# Altium integrated library Altium_Other.IntLib: 16 symbols
Pins are listed as number, name and electrical type; pins without a type are passive.

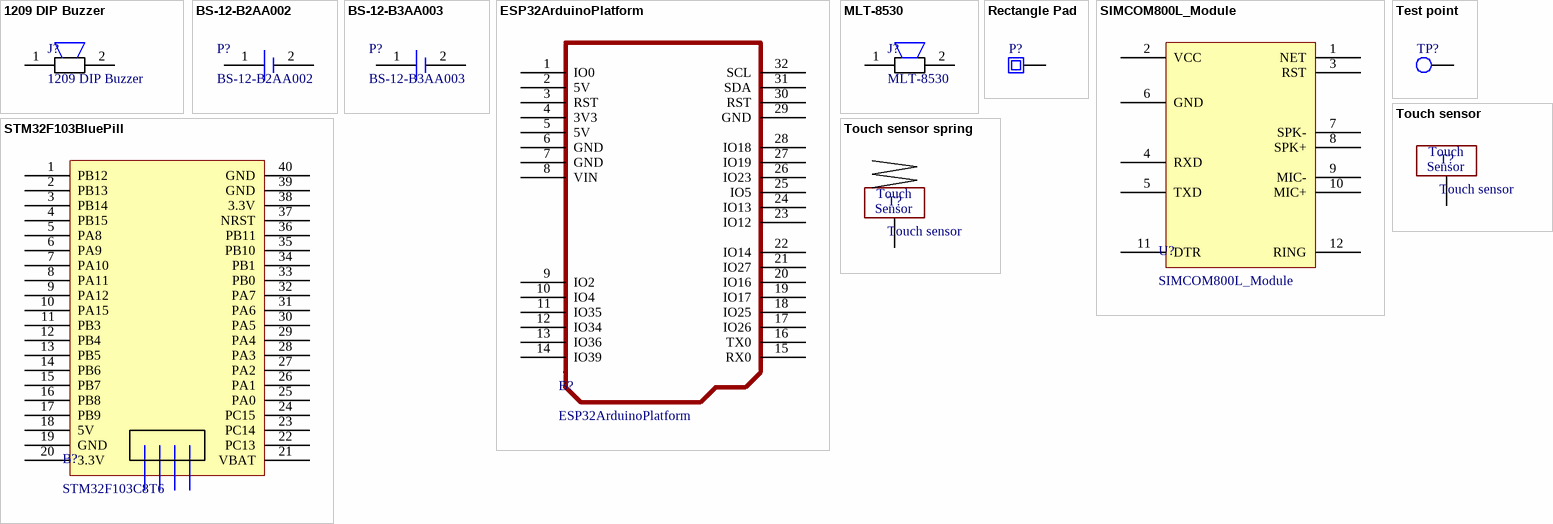
[diagram p0: symbols 1209 DIP Buzzer to Touch sensor spring]

## 1209 DIP Buzzer
designator J?
1209 DIP Buzzer 12x9mm 93dB; Manufacturer: OEM; ComponentLink1Description: Datasheet; ComponentLink1URL: N/A; LCSC Part #: N/A; Manufacturer Part Number: N/A; Mount: THT; Operating Temperature Max: + 70 C; Operating Temperature Min: - 20 C; Package / Case: 1209; Packaging: Tape and Reel; Supplier 1: Mouser; Supplier 1 Part Number: N/A; Supplier 1 URL: N/A; Supplier 2: Digi-Key; Supplier 2 Part Number: N/A; Supplier 2 URL: N/A; Supplier 3: thegioiic; Supplier 3 Part Number: 1209 DIP Buzzer; Supplier 3 URL: https://www.thegioiic.com/1209-dip-buzzer-12x9mm-93db; Value: 1209 DIP Buzzer
footprint 1209_DIP_BUZZER
pins: 1, 2

## BS-12-B2AA002
designator P?
Battery base -25℃~+85℃ SMD Battery Connectors ROHS; Manufacturer: MYOUNG; Value: CR1220; ComponentLink1Description: Datasheet; ComponentLink1URL: https://datasheet.lcsc.com/lcsc/2012311834_MYOUNG-BS-12-B2AA002_C964721.pdf; LCSC Part #: C964721; Manufacturer Part Number: BS-12-B2AA002; Mount: SMD/SMT; Operating Temperature Max: + 85 C; Operating Temperature Min: - 40 C; Package / Case: CR1220;CR1220D;ML1220; Packaging: Tape and Reel; Supplier 1: Mouser; Supplier 1 Part Number: N/A; Supplier 1 URL: N/A; Supplier 2: Digi-Key; Supplier 2 Part Number: N/A; Supplier 2 URL: N/A; Supplier 3: thegioiic; Supplier 3 Part Number: N/A; Supplier 3 URL: N/A
footprint BS-12-B2AA002/3
pins: 1, 2

## BS-12-B3AA003
designator P?
Battery base -25℃~+85℃ SMD Battery Connectors ROHS; Manufacturer: MYOUNG; ComponentLink1Description: Datasheet; ComponentLink1URL: https://www.lcsc.com/datasheet/lcsc_datasheet_2012181808_MYOUNG-BS-12-B3AA003_C964723.pdf; LCSC Part #: C964723; Manufacturer Part Number: BS-12-B3AA003; Mount: SMD/SMT; Operating Temperature Max: + 85 C; Operating Temperature Min: - 40 C; Package / Case: CR1220;CR1220D;ML1220; Packaging: Tape and Reel; Supplier 1: Mouser; Supplier 1 Part Number: N/A; Supplier 1 URL: N/A; Supplier 2: Digi-Key; Supplier 2 Part Number: N/A; Supplier 2 URL: N/A; Supplier 3: thegioiic; Supplier 3 Part Number: N/A; Supplier 3 URL: N/A; Value: BS-12-B3AA003
footprint BS-12-B2AA002/3
pins: 1, 2

## ESP32ArduinoPlatform
designator B?  (no BOM)
footprint ESP32ARDUINOPLATFORM (ESP32ArduinoPlatform)
pins: 1 IO0, 2 5V, 3 RST, 4 3V3, 5 5V, 6 GND, 7 GND, 8 VIN, 9 IO2, 10 IO4, 11 IO35, 12 IO34, 13 IO36, 14 IO39, 15 RX0, 16 TX0, 17 IO26, 18 IO25, 19 IO17, 20 IO16, 21 IO27, 22 IO14, 23 IO12, 24 IO13, 25 IO5, 26 IO23, 27 IO19, 28 IO18, 29 GND, 30 RST, 31 SDA, 32 SCL

## MLT-8530
designator J?
80dB Passive (external drive) Electromagnetic Type 2.7kHz SMD,8.5x8.5mm Buzzers ROHS; Manufacturer: Jiangsu Huaneng Elec; ComponentLink1Description: Datasheet; ComponentLink1URL: https://www.lcsc.com/datasheet/lcsc_datasheet_2410010301_Jiangsu-Huaneng-Elec-MLT-8530_C94599.pdf; LCSC Part #: C94599; Manufacturer Part Number: MLT-8530; Mount: SMT/SMD; Operating Temperature Max: + 70 C; Operating Temperature Min: - 20 C; Package / Case: SMD,8.5x8.5mm; Packaging: Tape and Reel; Supplier 1: Mouser; Supplier 1 Part Number: N/A; Supplier 1 URL: N/A; Supplier 2: Digi-Key; Supplier 2 Part Number: N/A; Supplier 2 URL: N/A; Supplier 3: thegioiic; Supplier 3 Part Number: N/A; Supplier 3 URL: N/A; Value: MLT-8530
footprint MLT-8530
pins: 1, 2

## Rectangle Pad
designator P?  (value not drawn)  (no BOM)
Manufacturer: OEM; ComponentLink1Description: Datasheet; ComponentLink1URL: N/A; LCSC Part #: N/A; Manufacturer Part Number: N/A; Mount: N/A; Operating Temperature Max: N/A; Operating Temperature Min: N/A; Package / Case: N/A; Packaging: N/A; Supplier 1: Mouser; Supplier 1 Part Number: N/A; Supplier 1 URL: N/A; Supplier 2: Digi-Key; Supplier 2 Part Number: N/A; Supplier 2 URL: N/A; Supplier 3: thegioiic; Supplier 3 Part Number: N/A; Supplier 3 URL: N/A; Value: N/A
footprint RECTANGLE PAD
pins: 1 27

## SIMCOM800L_Module
designator U?
Manufacturer: OEM; ComponentLink1Description: Datasheet; ComponentLink1URL: N/A; LCSC Part #: N/A; Manufacturer Part Number: N/A; Mount: N/A; Operating Temperature Max: N/A; Operating Temperature Min: N/A; Package / Case: N/A; Packaging: N/A; Supplier 1: Mouser; Supplier 1 Part Number: N/A; Supplier 1 URL: N/A; Supplier 2: Digi-Key; Supplier 2 Part Number: N/A; Supplier 2 URL: N/A; Supplier 3: thegioiic; Supplier 3 Part Number: N/A; Supplier 3 URL: N/A; Value: N/A
footprint SIMCOM800L
pins: 1 NET, 2 VCC, 3 RST, 4 RXD, 5 TXD, 6 GND, 7 SPK-, 8 SPK+, 9 MIC-, 10 MIC+, 11 DTR, 12 RING

## STM32F103BluePill
designator B?, comment STM32F103C8T6
footprint BLUEPILL
pins: 1 PB12, 2 PB13, 3 PB14, 4 PB15, 5 PA8, 6 PA9, 7 PA10, 8 PA11, 9 PA12, 10 PA15, 11 PB3, 12 PB4, 13 PB5, 14 PB6, 15 PB7, 16 PB8, 17 PB9, 18 5V, 19 GND, 20 3.3V, 21 VBAT, 22 PC13, 23 PC14, 24 PC15, 25 PA0, 26 PA1, 27 PA2, 28 PA3, 29 PA4, 30 PA5, 31 PA6, 32 PA7, 33 PB0, 34 PB1, 35 PB10, 36 PB11, 37 NRST, 38 3.3V, 39 GND, 40 GND

## Test point
designator TP?  (value not drawn)  (no BOM)
Manufacturer: OEM; ComponentLink1Description: Datasheet; ComponentLink1URL: N/A; LCSC Part #: N/A; Manufacturer Part Number: N/A; Mount: N/A; Operating Temperature Max: N/A; Operating Temperature Min: N/A; Package / Case: N/A; Packaging: N/A; Supplier 1: Mouser; Supplier 1 Part Number: N/A; Supplier 1 URL: N/A; Supplier 2: Digi-Key; Supplier 2 Part Number: N/A; Supplier 2 URL: N/A; Supplier 3: thegioiic; Supplier 3 Part Number: N/A; Supplier 3 URL: N/A; Value: N/A
footprint TP
pins: 1 27

## Touch sensor
designator T?  (no BOM)
Touch sensor PCB; Manufacturer: OEM; ComponentLink1Description: Datasheet; ComponentLink1URL: N/A; LCSC Part #: N/A; Manufacturer Part Number: N/A; Mount: N/A; Operating Temperature Max: N/A; Operating Temperature Min: N/A; Package / Case: N/A; Packaging: N/A; Supplier 1: Mouser; Supplier 1 Part Number: N/A; Supplier 1 URL: N/A; Supplier 2: Digi-Key; Supplier 2 Part Number: N/A; Supplier 2 URL: N/A; Supplier 3: thegioiic; Supplier 3 Part Number: N/A; Supplier 3 URL: N/A; Value: N/A
footprint TOUCHSENSOR_PCB
pins: 1 27
text: Touch; Sensor

## Touch sensor spring
designator T?, comment Touch sensor  (no BOM)
9x12mm LX-0912; Manufacturer: OEM; ComponentLink1Description: Datasheet; ComponentLink1URL: N/A; LCSC Part #: N/A; Manufacturer Part Number: N/A; Mount: N/A; Operating Temperature Max: N/A; Operating Temperature Min: N/A; Package / Case: N/A; Packaging: N/A; Supplier 1: Mouser; Supplier 1 Part Number: N/A; Supplier 1 URL: N/A; Supplier 2: Digi-Key; Supplier 2 Part Number: N/A; Supplier 2 URL: N/A; Supplier 3: thegioiic; Supplier 3 Part Number: N/A; Supplier 3 URL: N/A; Value: N/A
footprint TOUCHSENSOR_SPRING
footprint TOUCHSENSOR_SPRING_CENTER
pins: 1 27
text: Touch; Sensor


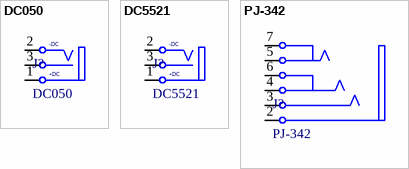
[diagram p1: symbols DC050 to PJ-342]

## DC050
designator J?
Surface Mount，Right Angle DC Power Receptacle 2mm 6.4mm 4A 16V SMD AC/DC Power Connectors ROHS; Manufacturer: OEM; Manufacturer Part Number: SHOU HAN; Rated Current: 2.5A; ComponentLink1Description: Datasheet link; ComponentLink1URL: https://datasheet.lcsc.com/lcsc/1912111437_SHOU-HAN-DC050-T_C431534.pdf?_gl=1*18nk6nd*_ga*MTI1Mzk4MDEzNi4xNzAxOTIwNDk2*_ga_98M84MKSZH*MTcxMTA5NjQ0Ny4xNjYuMS4xNzExMTAwNDQzLjI2LjAuMA..; Mount: SMD/SMT; Number of Pins: 4; Operating Temperature Max: N/A; Operating Temperature Min: N/A; Packaging: N/A; Supplier 1 URL: N/A; Supplier 2 URL: N/A; Supplier 3 URL: https://www.thegioiic.com/dc050-dau-noi-nguon-dc-cai-5521-dan-smd-kim-2-1mm; Value: DC050; LCSC Part #: C431534; Supplier 1: Mouser; Supplier 1 Part Number: N/A; Supplier 2: Digi-Key; Supplier 2 Part Number: N/A; Supplier 3: thegioiic; Supplier 3 Part Number: DC050; Voltage Rating DC: 16V
footprint DC050
pins: 1 T "Tip", 2 TN "Tip Normal (Break Contact)", 3 S (power) "Sleeve (Ground)"
text: -DC; +DC

## DC5521
designator J?
Manufacturer: OEM; Rated Current: 2.5A; Voltage Rating DC: 16V; ComponentLink1Description: Datasheet link; ComponentLink1URL: N/A; Manufacturer Part Number: N/A; Mount: THT; Number of Pins: 3; Operating Temperature Max: N/A; Operating Temperature Min: N/A; Packaging: N/A; Supplier 1 URL: N/A; Supplier 2 URL: N/A; Supplier 3 URL: https://www.thegioiic.com/dc050-dau-noi-nguon-dc-cai-5521-dan-smd-kim-2-1mm; Value: DC5521; LCSC Part #: N/A; Supplier 1: Mouser; Supplier 1 Part Number: N/A; Supplier 2: Digi-Key; Supplier 2 Part Number: N/A; Supplier 3: thegioiic; Supplier 3 Part Number: DC5521
footprint DC5521 (Jac DC input)
pins: 1 T "Tip", 2 TN "Tip Normal (Break Contact)", 3 S (power) "Sleeve (Ground)"
text: -DC; +DC

## PJ-342
designator J?
-30℃~+70℃ 3.5mm headphone jack 30V 500mA SMD Audio Connectors ROHS; Manufacturer: SHOU HAN; Rated Current: 2.5A; ComponentLink1Description: Datasheet link; ComponentLink1URL: https://datasheet.lcsc.com/lcsc/2006301234_SHOU-HAN-PJ-342_C668606.pdf?_gl=1*1tpi1co*_ga*MTI1Mzk4MDEzNi4xNzAxOTIwNDk2*_ga_98M84MKSZH*MTcxMTA5NjQ0Ny4xNjYuMS4xNzExMDk4NjczLjU5LjAuMA..; Manufacturer Part Number: PJ-342; Mount: SMD/SMT; Number of Pins: 3; Operating Temperature Max: + 70 C; Operating Temperature Min: - 30 C; Packaging: N/A; Supplier 1 URL: N/A; Supplier 2 URL: N/A; Supplier 3 URL: https://www.thegioiic.com/pj-342s-cong-audio-3-5mm-4-cuc-6-chan-dan-smd; Value: PJ-342; LCSC Part #: C668606; Supplier 1: Mouser; Supplier 1 Part Number: N/A; Supplier 2: Digi-Key; Supplier 2 Part Number: N/A; Supplier 3: thegioiic; Supplier 3 Part Number: PJ-342S; Voltage Rating DC: 30 V
footprint PJ-342
pins: 2 MIC "Tip", 3 GND "Tip Normal (Break Contact)", 4 RIGHT (power) "Sleeve (Ground)", 5 LEFT "Tip Normal (Break Contact)", 6 RIGHT "Tip Normal (Break Contact)", 7 LEFT "Tip Normal (Break Contact)"


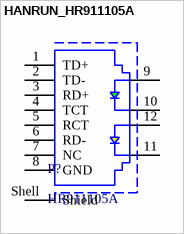
[diagram p2: symbol HANRUN_HR911105A]

## HANRUN_HR911105A
designator P?, comment HR911105A
Single Port RJ45 Connector with Integrated Magnetics and LED; Manufacturer Part Number: N/A; Manufacture SN: N/A; Mounting Technology: THT; Operating Temperature: -55 to +125degC; Packaging: N/A; Supplier 1: Mouser; Supplier 1 Part Number: N/A; Supplier 1 URL: N/A; Supplier 2: Digi-Key; Supplier 2 Part Number: N/A; Supplier 2 URL: N/A; Supplier 3: thegioiic; Supplier 3 Part Number: HR911105A; Supplier 3 URL: https://www.thegioiic.com/hr911105a-cong-rj45-cai-co-led-hanrun; Value: HR911105A; ComponentLink1Description: Datasheet; ComponentLink1URL: https://tme.vn/upload/pdf/HR911105A.pdf
footprint HANRUN_HR911105A
pins: 1 TD+, 2 TD-, 3 RD+, 4 TCT, 5 RCT, 6 RD-, 7 NC, 8 GND, 9, 10, 11, 12, Shell Shield


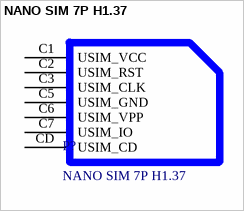
[diagram p3: symbol NANO SIM 7P H1.37]

## NANO SIM 7P H1.37
designator P?
Brass Alloy Self-bouncing Gold 1.37mm Card Slot -40℃~+70℃ Nano SIM card SMD SIM Card Connectors ROHS; Manufacturer: SHOU HAN; Pad Count: 7; LCSC Part #: C7529384; ComponentLink1Description: Datasheet; ComponentLink1URL: https://www.lcsc.com/datasheet/lcsc_datasheet_2308181409_SHOU-HAN-NANO-SIM-7P-H1-37_C7529384.pdf; Manufacturer Part Number: NANO SIM 7P H1.37; Mount: SMD/SMT; Operating Temperature Max: + 70 C; Operating Temperature Min: - 40 C; Packaging: Tape and Reel; Supplier 1: Mouser; Supplier 1 Part Number: N/A; Supplier 1 URL: N/A; Supplier 2: Digi-Key; Supplier 2 Part Number: N/A; Supplier 2 URL: N/A; Supplier 3: thegioiic; Supplier 3 Part Number: N/A; Supplier 3 URL: N/A; Supply Voltage - Max: N/A; Supply Voltage - Min: N/A; Value: NANO SIM 7P H1.37
footprint NANO SIM 7P H1.37
pins: C1 USIM_VCC, C2 USIM_RST, C3 USIM_CLK, C5 USIM_GND, C6 USIM_VPP, C7 USIM_IO, CD USIM_CD